# EAGLE library part E100-M7-DPDT (library switch-e-switch)
TOGGLE SWITCH
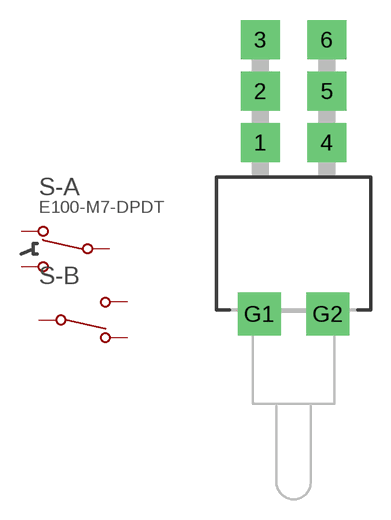
[diagram p3: symbol with the pads of E100-M7-DPDT; footprint E100-M7-DPDT]

Designator prefix S; gates -A=1PDT-NV -B=1PDT-N

## E100-M7-DPDT  [E100-M7-DPDT]
1  -A:S-NC  pas
2  -A:S-COM  pas
3  -A:S-NO  pas
4  -B:A-NC  pas
5  -B:A-COM  pas
6  -B:A-NO  pas

## Footprint E100-M7-DPDT (pad centres in mm)
Toggle Switch
drill 1.93 square: 1 -2.461,0; 2 -2.461,3.81; 3 -2.461,7.62; 4 2.461,0; 5 2.461,3.81; 6 2.461,7.62
drill 1.93 pad 3.175 square: G1 -2.54,-12.7; G2 2.54,-12.7